# EAGLE library part PDQ15-Q24-D15-D (library pdq-15d)
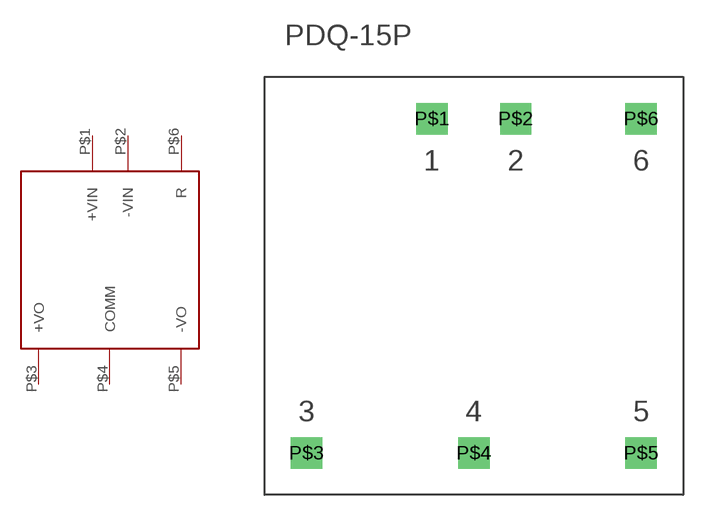
[diagram p0: symbol with the pads of PDQ15-Q24-D15-D; footprint PDQ15-Q24-D15-D]

Designator prefix -

## PDQ15-Q24-D15-D  [PDQ15-Q24-D15-D]
P$1  +VIN  pwr
P$2  -VIN  pwr
P$3  +VO  pwr
P$4  COMM  pwr
P$5  -VO  pwr
P$6  R  in

## Footprint PDQ15-Q24-D15-D (pad centres in mm)
drill 1.27 square: P$1 -2.54,10.16; P$2 2.54,10.16; P$3 -10.16,-10.16; P$4 0,-10.16; P$5 10.16,-10.16; P$6 10.16,10.16